# Altium schematic symbol library ThuVien.SchLib: 14 symbols
Pins are listed as number, name and electrical type; pins without a type are passive.

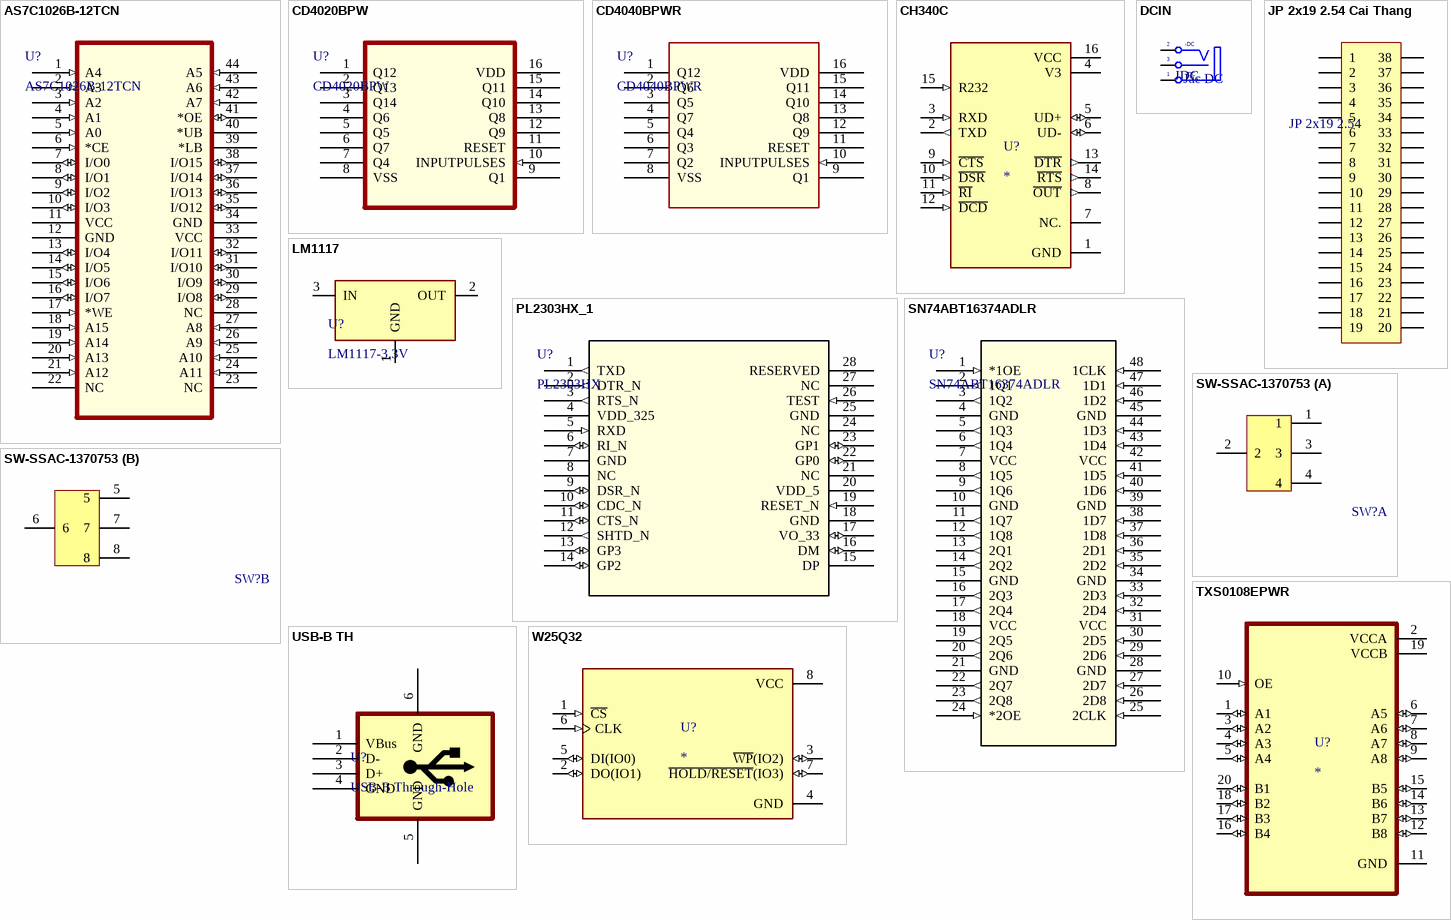
[diagram p0: symbols AS7C1026B-12TCN to W25Q32]

## AS7C1026B-12TCN
designator U?
RAM 16data, 16address; Mfr_Name: Alliance Memory; Copyright: Copyright (C) 2023 Ultra Librarian. All rights reserved.; Manufacturer_Part_Number: AS7C1026B-12TCN; RefDes: RefDes; Type: DEV
footprint TSOP-44_MIL400_ALL-M
pins: 1 A4 (in), 2 A3 (in), 3 A2 (in), 4 A1 (in), 5 A0 (in), 6 *CE (in), 7 I/O0 (io), 8 I/O1 (io), 9 I/O2 (io), 10 I/O3 (io), 11 VCC (power), 12 GND (power), 13 I/O4 (io), 14 I/O5 (io), 15 I/O6 (io), 16 I/O7 (io), 17 *WE (in), 18 A15 (in), 19 A14 (in), 20 A13 (in), 21 A12 (in), 22 NC, 23 NC, 24 A11 (in), 25 A10 (in), 26 A9 (in), 27 A8 (in), 28 NC, 29 I/O8 (io), 30 I/O9 (io), 31 I/O10 (io), 32 I/O11 (io), 33 VCC (power), 34 GND (power), 35 I/O12 (io), 36 I/O13 (io), 37 I/O14 (io), 38 I/O15 (io), 39 *LB, 40 *UB, 41 *OE (io), 42 A7 (in), 43 A6 (in), 44 A5 (in)

## CD4020BPW
designator U?
Bộ đếm 14bit nhị phân; Mfr_Name: Texas Instruments; Copyright: Copyright (C) 2023 Ultra Librarian. All rights reserved.; Manufacturer_Part_Number: CD4020BPW; RefDes: RefDes; Type: DEV
footprint PW16-M
pins: 1 Q12, 2 Q13, 3 Q14, 4 Q6, 5 Q5, 6 Q7, 7 Q4, 8 VSS (power), 9 Q1, 10 INPUTPULSES (in), 11 RESET, 12 Q9, 13 Q8, 14 Q10, 15 Q11, 16 VDD (power)

## CD4040BPWR
designator U?
Bộ đếm 12bit nhị phân; Mfr_Name: Texas Instruments; Copyright: Copyright (C) 2023 Ultra Librarian. All rights reserved.; Manufacturer_Part_Number: CD4040BPWR; RefDes: RefDes; Type: DEV
footprint PW16-M
pins: 1 Q12, 2 Q6, 3 Q5, 4 Q7, 5 Q4, 6 Q3, 7 Q2, 8 VSS (power), 9 Q1, 10 INPUTPULSES (in), 11 RESET, 12 Q9, 13 Q8, 14 Q10, 15 Q11, 16 VDD (power)

## CH340C
designator U?
USB to TTL (thạch anh nội); MF: {'manufacturer': u'WCH'}; MP: CH340C; Price: None; Package: None; Availability: Unavailable; Value: *
footprint SOIC127P600X180-16N
pins: 1 GND (power), 2 TXD (out), 3 RXD (in), 4 V3 (power), 5 UD+ (io), 6 UD- (io), 7 NC., 8 ~{OUT} (out), 9 ~{CTS} (in), 10 ~{DSR} (in), 11 ~{RI} (in), 12 ~{DCD} (in), 13 ~{DTR} (out), 14 ~{RTS} (out), 15 R232 (in), 16 VCC (power)

## DCIN
designator JDC, comment Jac DC
Jac DC input; Value: Jac DC
footprint DC-IN (Jac DC input)
pins: 1 T "Tip", 2 TN "Tip Normal (Break Contact)", 3 S (power) "Sleeve (Ground)"
text: -DC; +DC

## JP 2x19 2.54 Cai Thang
designator JP?, comment JP 2x19 2.54
Cắm; Ten_Linh_Kien: Jump Đôi Cái 2.54MM 2x20P Thẳng; Don_Vi: Con; Ma_Hang: MH008647; Ghi_Chu: *; Kieu_Chan: *; Chung_Loai: Cắm
footprint JP 2x20 CT (40 pins, dual row, straight, gold plating)
pins: 1, 2, 3, 4, 5, 6, 7, 8, 9, 10, 11, 12, 13, 14, 15, 16, 17, 18, 19, 20, 21, 22, 23, 24, 25, 26, 27, 28, 29, 30, 31, 32, 33, 34, 35, 36, 37, 38

## LM1117
designator U?, comment LM1117-3.3V
800mA Low-Dropout Linear Regulator; Creator: Nguyen Ba Bien; Website: http://group3i.net
footprint LM1117-SOP
footprint SOT223-4N (SOT223, 4-Leads, Body 6.5x3.5mm, Pitch 2.3mm, Lead Span 7mm, IPC Medium Density)
pins: 1 GND, 2 OUT, 3 IN

## PL2303HX_1
designator U?, comment PL2303HX
No Description Available; Mfr_Name: Prolific Technology; Copyright: Copyright (C) 2022 Ultra Librarian. All rights reserved.; Manufacturer_Part_Number: PL2303HX; RefDes: RefDes; Type: DEV
footprint SSOP28_PLT-M
pins: 1 TXD (out), 2 DTR_N (out), 3 RTS_N (out), 4 VDD_325 (power), 5 RXD (in), 6 RI_N (io), 7 GND, 8 NC, 9 DSR_N (io), 10 CDC_N (io), 11 CTS_N (io), 12 SHTD_N (out), 13 GP3 (io), 14 GP2 (io), 15 DP, 16 DM (io), 17 VO_33 (io), 18 GND (power), 19 RESET_N (in), 20 VDD_5 (power), 21 NC, 22 GP0 (io), 23 GP1 (io), 24 NC, 25 GND, 26 TEST (in), 27 NC, 28 RESERVED

## SN74ABT16374ADLR
designator U?
16 flip-flop loại D; Mfr_Name: Texas Instruments; Copyright: Copyright (C) 2023 Ultra Librarian. All rights reserved.; Manufacturer_Part_Number: SN74ABT16374ADLR; RefDes: RefDes; Type: DEV
footprint DL48-M
pins: 1 *1OE (in), 2 1Q1 (out), 3 1Q2 (out), 4 GND (power), 5 1Q3 (out), 6 1Q4 (out), 7 VCC (power), 8 1Q5 (out), 9 1Q6 (out), 10 GND (power), 11 1Q7 (out), 12 1Q8 (out), 13 2Q1 (out), 14 2Q2 (out), 15 GND (power), 16 2Q3 (out), 17 2Q4 (out), 18 VCC (power), 19 2Q5 (out), 20 2Q6 (out), 21 GND (power), 22 2Q7 (out), 23 2Q8 (out), 24 *2OE (in), 25 2CLK (in), 26 2D8 (in), 27 2D7 (in), 28 GND (power), 29 2D6 (in), 30 2D5 (in), 31 VCC (power), 32 2D4 (in), 33 2D3 (in), 34 GND (power), 35 2D2 (in), 36 2D1 (in), 37 1D8 (in), 38 1D7 (in), 39 GND (power), 40 1D6 (in), 41 1D5 (in), 42 VCC (power), 43 1D4 (in), 44 1D3 (in), 45 GND (power), 46 1D2 (in), 47 1D1 (in), 48 1CLK (in)

## SW-SSAC-1370753
designator SW?
Công tắc 3 trạng thái (kép)
footprint SW-SSAC-1370753
part A pins: 1, 2, 3, 4
part B pins: 5, 6, 7, 8

## TXS0108EPWR
designator U?
Chuyển đổi điệp áp 3.3V-5V; MP: TXS0108EPWR; Price: None; Package: None; Availability: Unavailable; Value: *
footprint SOP65P640X120-20N
pins: 1 A1 (io), 2 VCCA (power), 3 A2 (io), 4 A3 (io), 5 A4 (io), 6 A5 (io), 7 A6 (io), 8 A7 (io), 9 A8 (io), 10 OE (in), 11 GND (power), 12 B8 (io), 13 B7 (io), 14 B6 (io), 15 B5 (io), 16 B4 (io), 17 B3 (io), 18 B2 (io), 19 VCCB (power), 20 B1 (io)

## USB-B TH
designator U?, comment USB-B Through-Hole
footprint USB-B-2 (USB B connector, 4pin, For Print)
footprint USB2.5-2H4D (Connector; USB1.1, Type B, Thru-Hole; 4 Position; Right Angle)
pins: 1 VBus, 2 D-, 3 D+, 4 GND, 5 GND, 6 GND

## W25Q32
designator U?
3v 16m-Bit Serial Flash Memory With Dual; MF: {'manufacturer': u'Winbond Electronics'}; MP: W25Q16JVSSIQ; Availability: Unavailable; Value: *; Package: None; Price: None
footprint WIN_SS-8_WIN
pins: 1 ~{CS} (in), 2 DO(IO1) (io), 3 ~{WP}(IO2) (io), 4 GND (power), 5 DI(IO0) (io), 6 CLK (in), 7 ~{HOLD/RESET}(IO3) (io), 8 VCC (power)

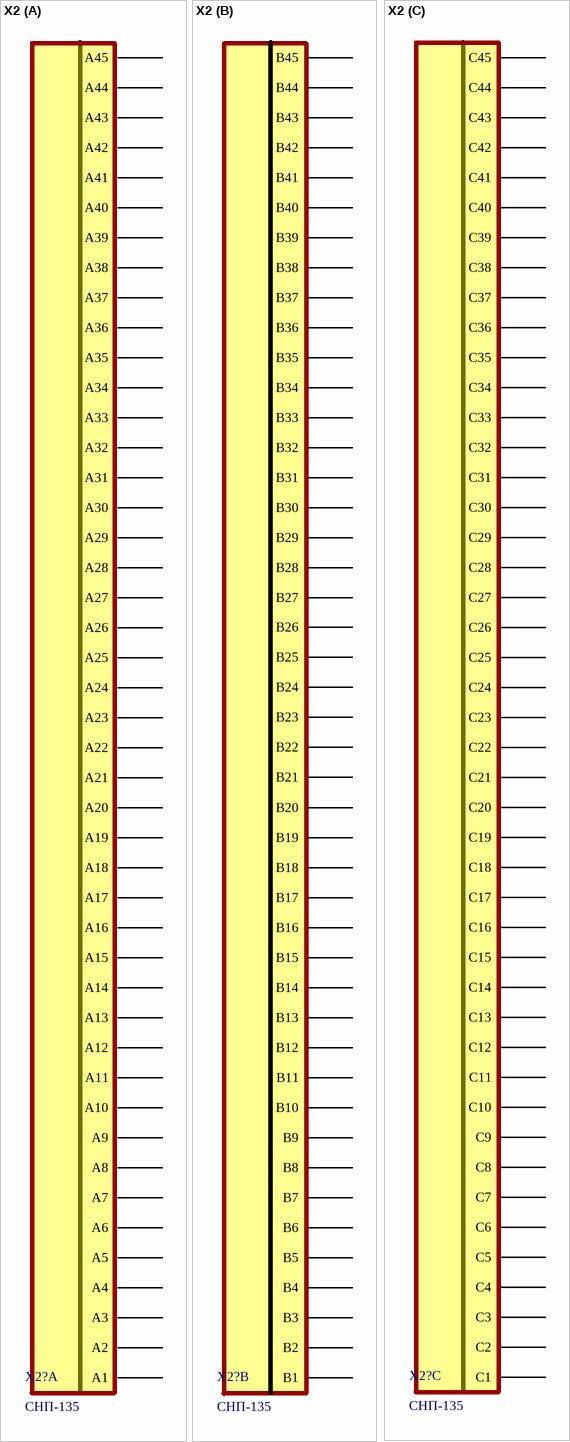
[diagram p1: symbol X2]

## X2
designator X2?, comment СНП-135
footprint X2
footprint X2N
footprint X2M
part A pins: 1 A1, 2 A2, 3 A3, 4 A4, 5 A5, 6 A6, 7 A7, 8 A8, 9 A9, 10 A10, 11 A11, 12 A12, 13 A13, 14 A14, 15 A15, 16 A16, 17 A17, 18 A18, 19 A19, 20 A20, 21 A21, 22 A22, 23 A23, 24 A24, 25 A25, 26 A26, 27 A27, 28 A28, 29 A29, 30 A30, 31 A31, 32 A32, 33 A33, 34 A34, 35 A35, 36 A36, 37 A37, 38 A38, 39 A39, 40 A40, 41 A41, 42 A42, 43 A43, 44 A44, 45 A45
part B pins: 46 B1, 47 B2, 48 B3, 49 B4, 50 B5, 51 B6, 52 B7, 53 B8, 54 B9, 55 B10, 56 B11, 57 B12, 58 B13, 59 B14, 60 B15, 61 B16, 62 B17, 63 B18, 64 B19, 65 B20, 66 B21, 67 B22, 68 B23, 69 B24, 70 B25, 71 B26, 72 B27, 73 B28, 74 B29, 75 B30, 76 B31, 77 B32, 78 B33, 79 B34, 80 B35, 81 B36, 82 B37, 83 B38, 84 B39, 85 B40, 86 B41, 87 B42, 88 B43, 89 B44, 90 B45
part C pins: 91 C1, 92 C2, 93 C3, 94 C4, 95 C5, 96 C6, 97 C7, 98 C8, 99 C9, 100 C10, 101 C11, 102 C12, 103 C13, 104 C14, 105 C15, 106 C16, 107 C17, 108 C18, 109 C19, 110 C20, 111 C21, 112 C22, 113 C23, 114 C24, 115 C25, 116 C26, 117 C27, 118 C28, 119 C29, 120 C30, 121 C31, 122 C32, 123 C33, 124 C34, 125 C35, 126 C36, 127 C37, 128 C38, 129 C39, 130 C40, 131 C41, 132 C42, 133 C43, 134 C44, 135 C45